# Altium footprint library L-Stick.PcbLib: 29 footprints (part 1 of 2)
Each footprint in its own frame and in the unit in brackets; x right, y up, seen from the top. Pads: shape width x height; smd on the part's side, far side on the other; paste and mask are expansions set on the pad; w line width, h text height; cw(c..) or ccw(c..) is an arc to the next point about the centre after c.
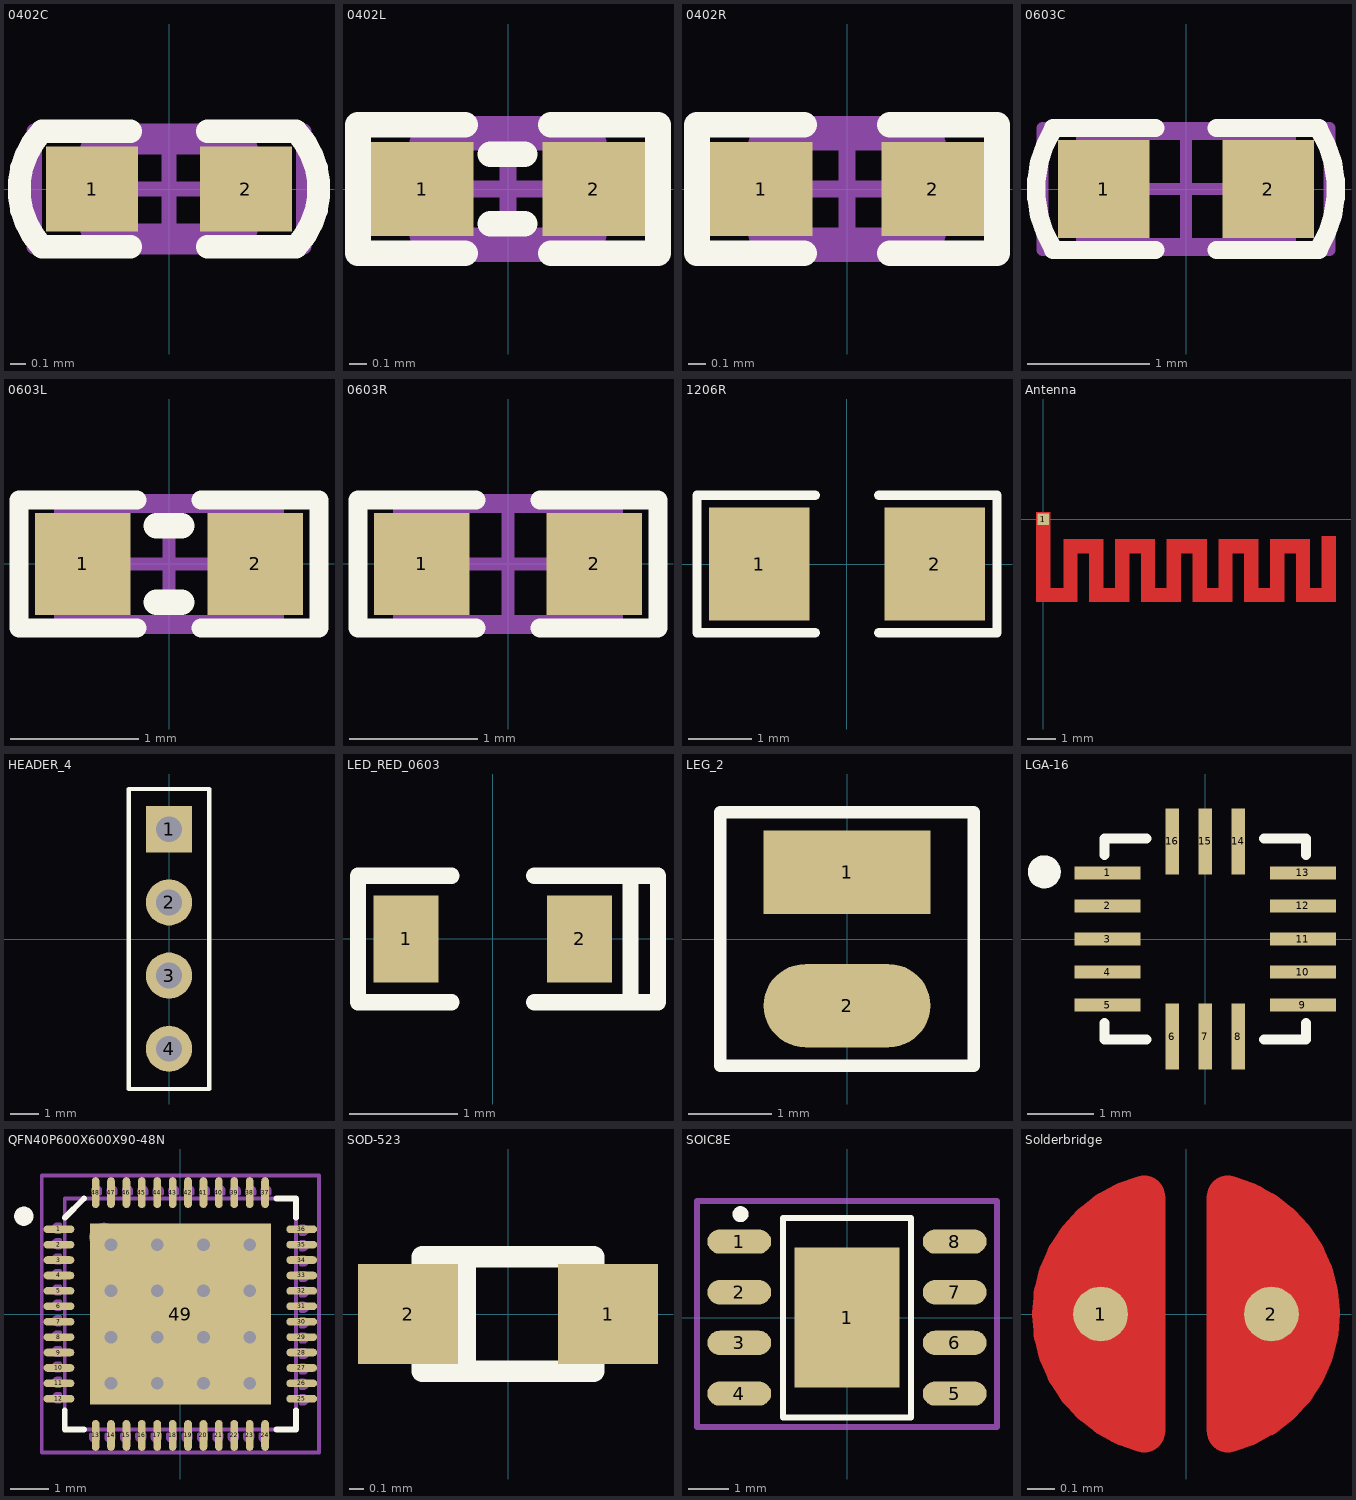
[diagram p0: the footprints below, top view; thin cyan lines are the x and y axes]

## 0402C [mm]
pads (2):
  rect 0.6x0.55 smd: 1(-0.5,0) 2(0.5,0)
Top Overlay:
  lines w0.15: -0.25,-0.375 -0.824,-0.375 cw(c-0.432,0) -0.824,0.375 -0.25,0.375 ; 0.25,-0.375 0.824,-0.375 ccw(c0.432,0) 0.824,0.375 0.25,0.375
Mechanical 7:
  lines w0.1: -0.525,-0.275 0.525,-0.275 0.525,0.275 -0.525,0.275 -0.525,-0.275
Mechanical 15:
  lines w0.1: -0.275,0 0.275,0 ; 0,-0.275 0,0.275 ; -0.875,-0.375 -0.875,0.375 0.875,0.375 0.875,-0.375 -0.875,-0.375
3D body: height 0.5, standoff -0.01, extent -0.508,-0.254 0.508,0.254

## 0402L [mm]
pads (2):
  rect 0.6x0.55 smd: 1(-0.5,0) 2(0.5,0)
Top Overlay:
  lines w0.15: -0.25,-0.375 -0.875,-0.375 -0.875,0.375 -0.25,0.375 ; -0.102,-0.203 0.098,-0.203 ; -0.102,0.203 0.098,0.203 ; 0.25,-0.375 0.875,-0.375 0.875,0.375 0.25,0.375
Mechanical 7:
  lines w0.1: -0.525,-0.275 -0.525,0.275 0.525,0.275 0.525,-0.275 -0.525,-0.275
Mechanical 15:
  lines w0.1: -0.275,0 0.275,0 ; 0,-0.275 0,0.275 ; -0.875,-0.375 0.875,-0.375 0.875,0.375 -0.875,0.375 -0.875,-0.375
3D body: height 0.5, standoff 0, extent -0.5,-0.302 0.5,0.298

## 0402R [mm]
pads (2):
  rect 0.6x0.55 smd: 1(-0.5,0) 2(0.5,0)
Top Overlay:
  lines w0.15: -0.25,-0.375 -0.875,-0.375 -0.875,0.375 -0.25,0.375 ; 0.25,-0.375 0.875,-0.375 0.875,0.375 0.25,0.375
Mechanical 7:
  lines w0.1: -0.525,-0.275 -0.525,0.275 0.525,0.275 0.525,-0.275 -0.525,-0.275
Mechanical 15:
  lines w0.1: -0.275,0 0.275,0 ; 0,-0.275 0,0.275 ; -0.875,-0.375 0.875,-0.375 0.875,0.375 -0.875,0.375 -0.875,-0.375
3D body: height 0.3, standoff 0, extent -0.5,-0.25 0.5,0.25

## 0603C [mm]
pads (2):
  rect 0.75x0.8 smd: 1(-0.675,0) 2(0.675,0)
Top Overlay:
  lines w0.15: -1.087,-0.5 -0.25,-0.5 ; -1.087,-0.493 cw(c-0.305,0) -1.087,0.493 ; -1.087,0.5 -0.25,0.5 ; 0.25,-0.5 1.087,-0.5 ; 0.25,0.5 1.087,0.5 ; 1.087,-0.493 ccw(c0.305,0) 1.087,0.493
Mechanical 13:
  lines w0.1: -0.85,-0.45 -0.85,0.45 0.85,0.45 0.85,-0.45 -0.85,-0.45
Mechanical 15:
  lines w0.1: -0.45,0 0.45,0 ; 0,-0.45 0,0.45 ; -1.175,-0.5 1.175,-0.5 1.175,0.5 -1.175,0.5 -1.175,-0.5
3D body: height 0.8, standoff 0, extent -0.8,-0.428 0.8,0.432

## 0603L [mm]
pads (2):
  rect 0.75x0.8 smd: 1(-0.675,0) 2(0.675,0)
Top Overlay:
  lines w0.15: -0.25,-0.5 -1.175,-0.5 -1.175,0.5 -0.25,0.5 ; 0.25,-0.5 1.175,-0.5 1.175,0.5 0.25,0.5
  lines w0.2: -0.1,-0.3 0.1,-0.3 ; -0.1,0.3 0.1,0.3
Mechanical 13:
  lines w0.1: -0.85,-0.45 -0.85,0.45 0.85,0.45 0.85,-0.45 -0.85,-0.45
Mechanical 15:
  lines w0.1: -0.45,0 0.45,0 ; 0,-0.45 0,0.45 ; -1.175,-0.5 1.175,-0.5 1.175,0.5 -1.175,0.5 -1.175,-0.5
3D body: height 0.8, standoff 0, extent -0.8,-0.475 0.8,0.475

## 0603R [mm]
pads (2):
  rect 0.75x0.8 smd: 1(-0.675,0) 2(0.675,0)
Top Overlay:
  lines w0.15: -0.25,-0.5 -1.175,-0.5 -1.175,0.5 -0.25,0.5 ; 0.25,-0.5 1.175,-0.5 1.175,0.5 0.25,0.5
Mechanical 13:
  lines w0.1: -0.85,-0.45 0.85,-0.45 0.85,0.45 -0.85,0.45 -0.85,-0.45
Mechanical 15:
  lines w0.1: -0.45,0 0.45,0 ; 0,-0.45 0,0.45 ; -1.175,-0.5 -1.175,0.5 1.175,0.5 1.175,-0.5 -1.175,-0.5
3D body: height 0.41, standoff -0.01, extent -0.8,-0.406 0.8,0.404

## 1206R [mm]
pads (2):
  rect 1.6x1.8 smd: 1(-1.4,0) 2(1.4,0)
Top Overlay:
  lines w0.15: -0.508,-1.092 -2.388,-1.092 -2.388,1.091 -0.508,1.091 ; 0.508,-1.092 2.388,-1.092 2.388,1.092 0.508,1.092
3D body: height 0.6, standoff 0, extent -1.6,-0.8 1.6,0.8

## Antenna [mm]
pads (1):
  rect 0.4x0.4 smd: 1(0,0)
Top Layer:
  region: 3.9,-0.687 3.4,-0.687 3.4,-2.887 3.9,-2.887
  region: 10.2,-2.887 10.2,-2.387 8.8,-2.387 8.8,-2.887
  region: 8.4,-2.887 8.4,-2.387 7,-2.387 7,-2.887
  region: 9.3,-0.687 8.8,-0.687 8.8,-2.887 9.3,-2.887
  region: 8.4,-0.687 7.9,-0.687 7.9,-2.887 8.4,-2.887
  region: 7.5,-0.687 7,-0.687 7,-2.887 7.5,-2.887
  region: 6.6,-2.887 6.6,-2.387 5.2,-2.387 5.2,-2.887
  region: 6.6,-0.687 6.1,-0.687 6.1,-2.887 6.6,-2.887
  region: 4.8,-2.887 4.8,-2.387 3.4,-2.387 3.4,-2.887
  region: 10.2,-0.587 9.7,-0.587 9.7,-2.887 10.2,-2.887
  region: 5.7,-0.687 5.2,-0.687 5.2,-2.887 5.7,-2.887
  region: 9.3,-1.187 9.3,-0.687 7.9,-0.687 7.9,-1.187
  region: 7.5,-1.187 7.5,-0.687 6.1,-0.687 6.1,-1.187
  region: 4.8,-0.687 4.3,-0.687 4.3,-2.887 4.8,-2.887
  region: 5.7,-1.187 5.7,-0.687 4.3,-0.687 4.3,-1.187
  region: 3,-2.887 3,-2.387 1.6,-2.387 1.6,-2.887
  region: 2.1,-0.687 1.6,-0.687 1.6,-2.887 2.1,-2.887
  region: 3.9,-1.187 3.9,-0.687 2.5,-0.687 2.5,-1.187
  region: 3,-0.687 2.5,-0.687 2.5,-2.887 3,-2.887
  region: 1.2,-0.687 0.7,-0.687 0.7,-2.887 1.2,-2.887
  rectangle: -0.25,-2.887 0.25,0.245
  region: 2.1,-1.187 2.1,-0.687 0.7,-0.687 0.7,-1.187
  region: 1.2,-2.887 1.2,-2.387 -0.25,-2.387 -0.25,-2.887

## HEADER_4 [mm]
pads (4):
  rect 1.6x1.6 hole 0.9: 1(0,3.81)
  round 1.6 hole 0.9: 2(0,1.27) 3(0,-1.27) 4(0,-3.81)
Top Overlay:
  lines w0.15: -1.397,-5.207 -1.397,5.207 1.397,5.207 1.397,-5.207 -1.397,-5.207
3D body: height 9.57, standoff -1.97, extent -1.257,-5.068 1.283,5.092

## LED_RED_0603 [mm]
pads (2):
  rect 0.6x0.8 smd: 1(-0.8,0) 2(0.8,0)
Top Overlay:
  lines w0.15: -0.381,-0.584 -1.245,-0.584 -1.245,0.584 -0.381,0.584 ; 0.381,-0.584 1.27,-0.584 ; 0.381,0.584 1.27,0.584 ; 1.27,-0.584 1.27,0.584 ; 1.27,-0.584 1.524,-0.584 1.524,0.33 1.524,0.584 1.27,0.584
3D body: height 0.41, standoff -0.01, extent -0.8,-0.405 0.8,0.405

## LEG_2 [mm]
pads (2):
  rect 2x1 smd: 1(0,0.8)
  oval 2x1 smd: 2(0,-0.8)
Top Overlay:
  lines w0.15: -1.524,-1.524 -1.524,1.524 1.524,1.524 1.524,-1.524 -1.524,-1.524

## LGA-16 [mm]
pads (16):
  rect 1x0.2 smd: 1(-1.479,1) 2(-1.479,0.5) 3(-1.479,0) 4(-1.479,-0.5) 5(-1.479,-1) 9(1.479,-1) 10(1.479,-0.5) 11(1.479,0) 12(1.479,0.5) 13(1.479,1)
  rect 0.2x1 smd: 6(-0.5,-1.479) 7(0,-1.479) 8(0.5,-1.479) 14(0.5,1.479) 15(0,1.479) 16(-0.5,1.479)
Top Overlay:
  circle w0.25: c-2.438,1.016 r0.125
  lines w0.15: -1.524,-1.27 -1.524,-1.524 -0.889,-1.524 ; -1.524,1.27 -1.524,1.524 -0.889,1.524 ; 0.889,-1.524 1.524,-1.524 1.524,-1.27 ; 0.889,1.524 1.524,1.524 1.524,1.27
Top Solder:
  region: -0.282,1.532 -0.282,0.92 -0.72,0.92 -0.72,1.532
  region: 0.219,1.531 0.219,0.92 -0.22,0.92 -0.22,1.531
  region: 0.719,1.531 0.719,0.921 0.281,0.921 0.281,1.531
  region: -0.722,-1.532 -0.722,-0.921 -0.279,-0.921 -0.279,-1.532
  region: -0.222,-1.532 -0.222,-0.921 0.221,-0.921 0.221,-1.532
  region: 0.279,-1.531 0.279,-0.921 0.721,-0.921 0.721,-1.531
  region: 1.53,-1.223 0.922,-1.223 0.922,-0.78 1.53,-0.78
  region: 1.53,0.781 0.921,0.781 0.921,1.22 1.53,1.22
  region: 1.53,0.281 0.922,0.281 0.922,0.72 1.53,0.72
  region: 1.53,-0.221 0.922,-0.221 0.922,0.22 1.53,0.22
  region: 1.53,-0.72 0.921,-0.72 0.921,-0.28 1.53,-0.28
  region: -1.531,-0.78 -0.92,-0.78 -0.92,-1.221 -1.531,-1.221
  region: -1.534,-0.28 -0.92,-0.28 -0.92,-0.722 -1.534,-0.722
  region: -1.534,0.22 -0.92,0.22 -0.92,-0.221 -1.534,-0.221
  region: -1.532,0.72 -0.92,0.72 -0.92,0.28 -1.532,0.28
  region: -1.532,1.22 -0.92,1.22 -0.92,0.781 -1.532,0.781
3D body: height 1.01, standoff -0.01, extent -1.5,-1.509 1.5,1.492

## QFN40P600X600X90-48N [mm]
pads (49):
  oval 0.8x0.2 smd: 1(-3.152,2.2) 2(-3.152,1.8) 3(-3.152,1.4) 4(-3.152,1) 5(-3.152,0.6) 6(-3.152,0.2) 7(-3.152,-0.2) 8(-3.152,-0.6) 9(-3.152,-1) 10(-3.152,-1.4) 11(-3.152,-1.8) 12(-3.152,-2.2) 25(3.152,-2.2) 26(3.152,-1.8) 27(3.152,-1.4) 28(3.152,-1) 29(3.152,-0.6) 30(3.152,-0.2) 31(3.152,0.2) 32(3.152,0.6) 33(3.152,1) 34(3.152,1.4) 35(3.152,1.8) 36(3.152,2.2)
  oval 0.2x0.8 smd: 13(-2.2,-3.152) 14(-1.8,-3.152) 15(-1.4,-3.152) 16(-1,-3.152) 17(-0.6,-3.152) 18(-0.2,-3.152) 19(0.2,-3.152) 20(0.6,-3.152) 21(1,-3.152) 22(1.4,-3.152) 23(1.8,-3.152) 24(2.2,-3.152) 37(2.2,3.152) 38(1.8,3.152) 39(1.4,3.152) 40(1,3.152) 41(0.6,3.152) 42(0.2,3.152) 43(-0.2,3.152) 44(-0.6,3.152) 45(-1,3.152) 46(-1.4,3.152) 47(-1.8,3.152) 48(-2.2,3.152)
  rect 4.7x4.7 smd: 49(0,0)
via -1.8,1.8 diameter 0.66 hole 0.33
via -0.6,1.8 diameter 0.66 hole 0.33
via 0.6,1.8 diameter 0.66 hole 0.33
via 1.8,1.8 diameter 0.66 hole 0.33
via -1.8,0.6 diameter 0.66 hole 0.33
via -0.6,0.6 diameter 0.66 hole 0.33
via 0.6,0.6 diameter 0.66 hole 0.33
via 1.8,0.6 diameter 0.66 hole 0.33
via -1.8,-0.6 diameter 0.66 hole 0.33
via -0.6,-0.6 diameter 0.66 hole 0.33
via 0.6,-0.6 diameter 0.66 hole 0.33
via 1.8,-0.6 diameter 0.66 hole 0.33
via -1.8,-1.8 diameter 0.66 hole 0.33
via -0.6,-1.8 diameter 0.66 hole 0.33
via 0.6,-1.8 diameter 0.66 hole 0.33
via 1.8,-1.8 diameter 0.66 hole 0.33
Top Overlay:
  circle w0.25: c-4.064,2.54 r0.125
  lines w0.15: -3,-2.5 -3,-3 -2.5,-3 ; -3,2.5 -2.5,3 ; 2.5,-3 3,-3 3,-2.5 ; 2.5,3 3,3 3,2.5
Mechanical 7:
  circle w0.1: c-2,2 r0.32
  lines w0.1: -3.127,-2.269 -3.198,-2.269 cw(c-3.198,-2.174) -3.198,-2.079 -3.127,-2.079 ; -3.127,-1.869 -3.198,-1.869 cw(c-3.198,-1.774) -3.198,-1.679 -3.127,-1.679 ; -3.127,-1.469 -3.198,-1.469 cw(c-3.198,-1.374) -3.198,-1.279 -3.127,-1.279 ; -3.127,-1.069 -3.198,-1.069 cw(c-3.198,-0.974) -3.198,-0.879 -3.127,-0.879 ; -3.127,-0.669 -3.198,-0.669 cw(c-3.198,-0.574) -3.198,-0.479 -3.127,-0.479 ; -3.127,-0.269 -3.198,-0.269 cw(c-3.198,-0.174) -3.198,-0.079 -3.127,-0.079 ; -3.127,0.131 -3.198,0.131 cw(c-3.198,0.226) -3.198,0.321 -3.127,0.321 ; -3.127,0.531 -3.198,0.531 cw(c-3.198,0.626) -3.198,0.721 -3.127,0.721 ; -3.127,0.931 -3.198,0.931 cw(c-3.198,1.026) -3.198,1.121 -3.127,1.121 ; -3.127,1.331 -3.198,1.331 cw(c-3.198,1.426) -3.198,1.521 -3.127,1.521 ; -3.127,1.731 -3.198,1.731 cw(c-3.198,1.826) -3.198,1.921 -3.127,1.921 ; -3.127,2.131 -3.198,2.131 cw(c-3.198,2.226) -3.198,2.321 -3.127,2.321 ; -2.321,-3.127 -2.321,-3.198 ccw(c-2.226,-3.198) -2.131,-3.198 -2.131,-3.127 ; -2.269,3.127 -2.269,3.198 cw(c-2.174,3.198) -2.079,3.198 -2.079,3.127 ; -1.921,-3.127 -1.921,-3.198 ccw(c-1.826,-3.198) -1.731,-3.198 -1.731,-3.127 ; -1.869,3.127 -1.869,3.198 cw(c-1.774,3.198) -1.679,3.198 -1.679,3.127 ; -1.521,-3.127 -1.521,-3.198 ccw(c-1.426,-3.198) -1.331,-3.198 -1.331,-3.127 ; -1.469,3.127 -1.469,3.198 cw(c-1.374,3.198) -1.279,3.198 -1.279,3.127 ; -1.121,-3.127 -1.121,-3.198 ccw(c-1.026,-3.198) -0.931,-3.198 -0.931,-3.127 ; -1.069,3.127 -1.069,3.198 cw(c-0.974,3.198) -0.879,3.198 -0.879,3.127 ; -0.721,-3.127 -0.721,-3.198 ccw(c-0.626,-3.198) -0.531,-3.198 -0.531,-3.127 ; -0.669,3.127 -0.669,3.198 cw(c-0.574,3.198) -0.479,3.198 -0.479,3.127 ; -0.321,-3.127 -0.321,-3.198 ccw(c-0.226,-3.198) -0.131,-3.198 -0.131,-3.127 ; -0.269,3.127 -0.269,3.198 cw(c-0.174,3.198) -0.079,3.198 -0.079,3.127 ; 0.079,-3.127 0.079,-3.198 ccw(c0.174,-3.198) 0.269,-3.198 0.269,-3.127 ; 0.131,3.127 0.131,3.198 cw(c0.226,3.198) 0.321,3.198 0.321,3.127 ; 0.479,-3.127 0.479,-3.198 ccw(c0.574,-3.198) 0.669,-3.198 0.669,-3.127 ; 0.531,3.127 0.531,3.198 cw(c0.626,3.198) 0.721,3.198 0.721,3.127 ; 0.879,-3.127 0.879,-3.198 ccw(c0.974,-3.198) 1.069,-3.198 1.069,-3.127 ; 0.931,3.127 0.931,3.198 cw(c1.026,3.198) 1.121,3.198 1.121,3.127 ; 1.279,-3.127 1.279,-3.198 ccw(c1.374,-3.198) 1.469,-3.198 1.469,-3.127 ; 1.331,3.127 1.331,3.198 cw(c1.426,3.198) 1.521,3.198 1.521,3.127 ; 1.679,-3.127 1.679,-3.198 ccw(c1.774,-3.198) 1.869,-3.198 1.869,-3.127 ; 1.731,3.127 1.731,3.198 cw(c1.826,3.198) 1.921,3.198 1.921,3.127 ; 2.079,-3.127 2.079,-3.198 ccw(c2.174,-3.198) 2.269,-3.198 2.269,-3.127 ; 2.131,3.127 2.131,3.198 cw(c2.226,3.198) 2.321,3.198 2.321,3.127 ; 3.127,-2.321 3.198,-2.321 ccw(c3.198,-2.226) 3.198,-2.131 3.127,-2.131 ; 3.127,-1.921 3.198,-1.921 ccw(c3.198,-1.826) 3.198,-1.731 3.127,-1.731 ; 3.127,-1.521 3.198,-1.521 ccw(c3.198,-1.426) 3.198,-1.331 3.127,-1.331 ; 3.127,-1.121 3.198,-1.121 ccw(c3.198,-1.026) 3.198,-0.931 3.127,-0.931 ; 3.127,-0.721 3.198,-0.721 ccw(c3.198,-0.626) 3.198,-0.531 3.127,-0.531 ; 3.127,-0.321 3.198,-0.321 ccw(c3.198,-0.226) 3.198,-0.131 3.127,-0.131 ; 3.127,0.079 3.198,0.079 ccw(c3.198,0.174) 3.198,0.269 3.127,0.269 ; 3.127,0.479 3.198,0.479 ccw(c3.198,0.574) 3.198,0.669 3.127,0.669 ; 3.127,0.879 3.198,0.879 ccw(c3.198,0.974) 3.198,1.069 3.127,1.069 ; 3.127,1.279 3.198,1.279 ccw(c3.198,1.374) 3.198,1.469 3.127,1.469 ; 3.127,1.679 3.198,1.679 ccw(c3.198,1.774) 3.198,1.869 3.127,1.869 ; 3.127,2.079 3.198,2.079 ccw(c3.198,2.174) 3.198,2.269 3.127,2.269 ; -3,-3 -3,3 3,3 3,-3 -3,-3
Mechanical 15:
  lines w0.1: -0.5,0 0.5,0 ; 0,-0.5 0,0.5 ; -3.6,-3.6 -3.6,3.6 3.6,3.6 3.6,-3.6 -3.6,-3.6
3D body: height 0.86, standoff -0.01, extent -3.02,-3.02 3.02,3.02

## SOD-523 [mm]
pads (2):
  rect 0.7x0.7 smd: 1(0.7,0) 2(-0.7,0)
Top Overlay:
  lines w0.15: -0.5,-0.4 -0.5,0.4 ; -0.4,-0.4 -0.4,0.4 ; -0.3,-0.4 -0.3,0.4 ; -0.6,-0.4 -0.6,0.4 0.6,0.4 0.6,-0.4 -0.6,-0.4
3D body: height 0.7, standoff 0, extent -0.8,-0.399 0.8,0.399

## SOIC8E [mm]
pads (9):
  oval 1.6x0.61 smd: 1(-2.7,1.905) 2(-2.7,0.635) 3(-2.7,-0.635) 4(-2.7,-1.905) 5(2.7,-1.905) 6(2.7,-0.635) 7(2.7,0.635) 8(2.7,1.905)
  rect 2.62x3.51 smd: 1(0,0)
Top Overlay:
  circle w0.2: c-2.667,2.591 r0.1
  lines w0.15: -1.6,-2.5 -1.6,2.5 1.6,2.5 1.6,-2.5 -1.6,-2.5
Mechanical 15:
  lines w0.15: -3.759,-2.743 -3.759,2.921 3.759,2.921 3.759,-2.743 -3.759,-2.743
3D body: height 1.7, standoff 0, extent -3,-2.45 3,2.45

## Solderbridge [mm]
pads (2):
  round 0.2 smd paste-10: 1(-0.312,0) 2(0.312,0)
Top Layer:
  region: 0.077,0.432 0.152,0.505 0.271,0.467 0.335,0.424 0.409,0.351 0.462,0.292 0.521,0.193 0.549,0.099 0.544,-0.122 0.518,-0.193 0.434,-0.33 0.351,-0.411 0.259,-0.469 0.157,-0.5 0.107,-0.483 0.077,-0.43
  region: -0.077,-0.432 -0.152,-0.505 -0.271,-0.467 -0.335,-0.424 -0.409,-0.351 -0.462,-0.292 -0.521,-0.193 -0.549,-0.099 -0.544,0.122 -0.518,0.193 -0.434,0.33 -0.351,0.411 -0.259,0.469 -0.157,0.5 -0.107,0.483 -0.077,0.43
  lines w0.152: -0.153,-0.431 cw(c-0.042,0) -0.487,0 cw(c-0.042,0) -0.287,0.371 cw(c-0.042,0) -0.153,0.431 ; 0.153,-0.431 ccw(c0.042,0) 0.461,0.149 ccw(c0.042,0) 0.153,0.431
Top Solder:
  circle w0.61: c-0.003,0 r0.279